# EAGLE library part SLG46826V (library GREENPAK)
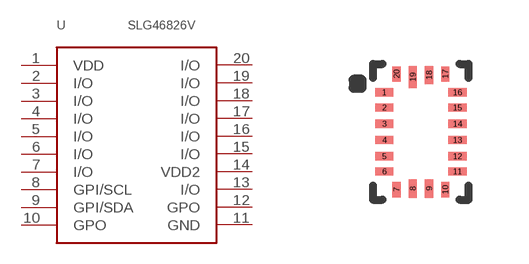
[diagram p39: symbol with the pads of STQFN-20L-2.0X2.2-#4; footprint STQFN-20L-2.0X2.2-#4]

Designator prefix -

## SLG46826V  [STQFN-20L-2.0X2.2-#4]
1  VDD  pwr
2  I/O  in
3  I/O
4  I/O
5  I/O
6  I/O
7  I/O
8  GPI/SCL  in
9  GPI/SDA  in
10  GPO  out
11  GND  pwr
12  GPO  out
13  I/O
14  VDD2  pwr
15  I/O
16  I/O
17  I/O
18  I/O
19  I/O
20  I/O

## Footprint STQFN-20L-2.0X2.2-#4 (pad centres in mm)
smd 0.457 x 0.203: 1 -0.914,0.989; 2 -0.914,0.608; 3 -0.914,0.202; 4 -0.914,-0.204; 5 -0.914,-0.611; 6 -0.914,-0.992; 11 0.914,-0.992; 12 0.914,-0.611; 13 0.914,-0.204; 14 0.914,0.202; 15 0.914,0.608; 16 0.914,0.989
smd 0.203 x 0.381: 7 -0.61,-1.449; 10 0.61,-1.449; 17 0.61,1.447; 20 -0.61,1.447
smd 0.203 x 0.457: 8 -0.203,-1.424; 9 0.203,-1.424; 18 0.203,1.421
smd 0.203 x 0.559: 19 -0.203,1.37